# EAGLE library part ADAFRUIT-FEATHER-M4-CAN (library adafruit_boards)
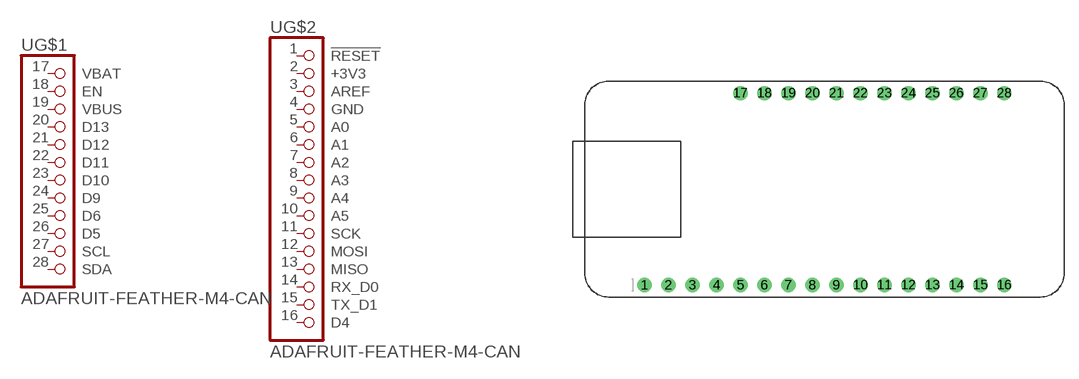
[diagram p0: symbol with the pads of FEATHER-PINS; footprint FEATHER-PINS]

Designator prefix U; gates G$1=MICROBUILDER_PINHD12 G$2=MICROBUILDER_PINHD16

## ADAFRUIT-FEATHER-M4-CAN  [FEATHER-PINS]
1  G$2:!RESET  pas
2  G$2:+3V3  pas
3  G$2:AREF  pas
4  G$2:GND  pas
5  G$2:A0  pas
6  G$2:A1  pas
7  G$2:A2  pas
8  G$2:A3  pas
9  G$2:A4  pas
10  G$2:A5  pas
11  G$2:SCK  pas
12  G$2:MOSI  pas
13  G$2:MISO  pas
14  G$2:RX_D0  pas
15  G$2:TX_D1  pas
16  G$2:D4  pas
17  G$1:VBAT  pas
18  G$1:EN  pas
19  G$1:VBUS  pas
20  G$1:D13  pas
21  G$1:D12  pas
22  G$1:D11  pas
23  G$1:D10  pas
24  G$1:D9  pas
25  G$1:D6  pas
26  G$1:D5  pas
27  G$1:SCL  pas
28  G$1:SDA  pas

## Footprint FEATHER-PINS (pad centres in mm)
PIN HEADER
drill 1: 1 -19.05,0; 2 -16.51,0; 3 -13.97,0; 4 -11.43,0; 5 -8.89,0; 6 -6.35,0; 7 -3.81,0; 8 -1.27,0; 9 1.27,0; 10 3.81,0; 11 6.35,0; 12 8.89,0; 13 11.43,0; 14 13.97,0; 15 16.51,0; 16 19.05,0; 17 -8.89,20.32; 18 -6.35,20.32; 19 -3.81,20.32; 20 -1.27,20.32; 21 1.27,20.32; 22 3.81,20.32; 23 6.35,20.32; 24 8.89,20.32; 25 11.43,20.32; 26 13.97,20.32; 27 16.51,20.32; 28 19.05,20.32